# EAGLE library part CORE.U.1 (library Bergsonne Tiles)
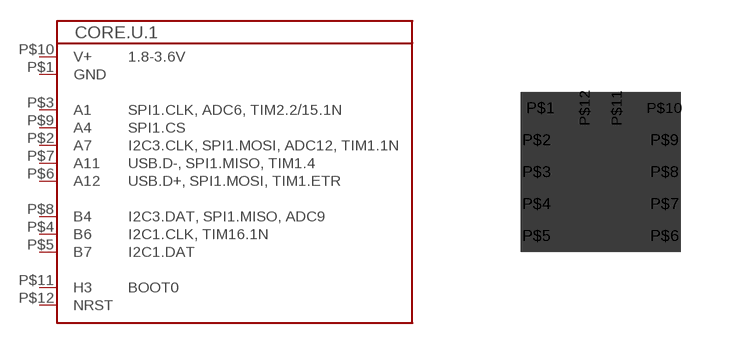
[diagram p5: symbol with the pads of T44-12; footprint T44-12]

Designator prefix -

## CORE.U.1  [T44-12]
P$1  GND
P$2  A7
P$3  A1
P$4  B6
P$5  B7
P$6  A12
P$7  A11
P$8  B4
P$9  A4
P$10  V+
P$11  H3
P$12  NRST

## Footprint T44-12 (pad centres in mm)
smd 1 x 0.4: P$1 -1.5,1.6
smd 0.8 x 0.4: P$2 -1.6,0.8; P$3 -1.6,0; P$4 -1.6,-0.8; P$5 -1.6,-1.6; P$6 1.6,-1.6; P$7 1.6,-0.8; P$8 1.6,0; P$9 1.6,0.8; P$10 1.6,1.6
smd 0.4 x 0.8: P$11 0.4,1.6; P$12 -0.4,1.6